# EAGLE library part LM3302 (library 1)
LM3302 Quad Comparator
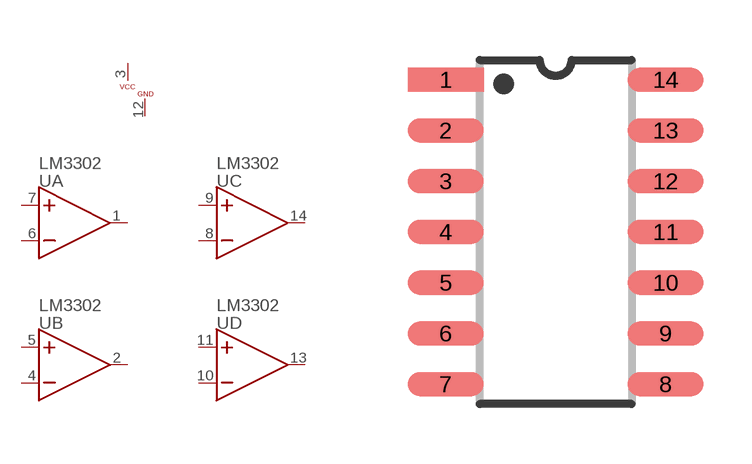
[diagram p45: symbol with the pads of SOIC-14; footprint SOIC-14]

Designator prefix U; gates A=OPAMP2 B=OPAMP2 C=OPAMP2 D=OPAMP2 G$5=VCC G$6=GND

## LM3302  [SOIC-14]
1  A:OUT
2  B:OUT
3  G$5:VCC
4  B:-IN
5  B:+IN
6  A:-IN
7  A:+IN
8  C:-IN
9  C:+IN
10  D:-IN
11  D:+IN
12  G$6:GND
13  D:OUT
14  C:OUT

## Footprint SOIC-14 (pad centres in mm)
SOIC-14
smd 1.9 x 0.6: 1 -2.75,3.81; 2 -2.75,2.54; 3 -2.75,1.27; 4 -2.75,0; 5 -2.75,-1.27; 6 -2.75,-2.54; 7 -2.75,-3.81; 8 2.75,-3.81; 9 2.75,-2.54; 10 2.75,-1.27; 11 2.75,0; 12 2.75,1.27; 13 2.75,2.54; 14 2.75,3.81